# EAGLE library part LL1517 (library lundahl)
LL1517
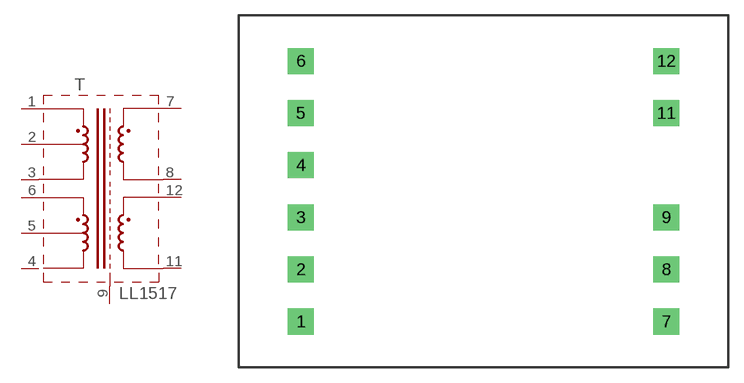
[diagram p9: symbol with the pads of LL1517; footprint LL1517]

Designator prefix T

## LL1517  [LL1517]
1  1  pas
2  2  pas
3  3  pas
4  4  pas
5  5  pas
6  6  pas
7  7  pas
8  8  pas
9  9  pas
11  11  pas
12  12  pas

## Footprint LL1517 (pad centres in mm)
LL1517
drill 1.422 pad 2.54 square: 1 -17.78,-12.7; 2 -17.78,-7.62; 3 -17.78,-2.54; 4 -17.78,2.54; 5 -17.78,7.62; 6 -17.78,12.7; 7 17.78,-12.7; 8 17.78,-7.62; 9 17.78,-2.54; 11 17.78,7.62; 12 17.78,12.7